# Altium integrated library MAX232ESE_.IntLib: 1 symbol
Pins are listed as number, name and electrical type; pins without a type are passive.

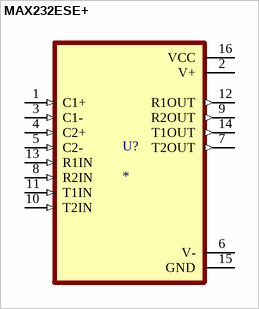
[diagram p0: symbol MAX232ESE+]

## MAX232ESE+
designator U?
5V-Powered, Multichannel RS-232 Drivers/Receivers; MF: Analog Devices; MP: MAX232ESE+; SnapEDA_Link: https://www.snapeda.com/parts/MAX232ESE+/Analog+Devices/view-part/?ref=snap; Package: SOIC-16 Maxim Integrated; Value: *; Check_prices: https://www.snapeda.com/parts/MAX232ESE+/Analog+Devices/view-part/?ref=eda
footprint SOIC127P600X175-16N
pins: 1 C1+ (in), 2 V+ (power), 3 C1- (in), 4 C2+ (in), 5 C2- (in), 6 V- (power), 7 T2OUT (out), 8 R2IN (in), 9 R2OUT (out), 10 T2IN (in), 11 T1IN (in), 12 R1OUT (out), 13 R1IN (in), 14 T1OUT (out), 15 GND (power), 16 VCC (power)